# Altium footprint library B0505SW2R2.PcbLib: 1 footprints
Each footprint in its own frame and in the unit in brackets; x right, y up, seen from the top. Pads: shape width x height; smd on the part's side, far side on the other; paste and mask are expansions set on the pad; w line width, h text height; cw(c..) or ccw(c..) is an arc to the next point about the centre after c.
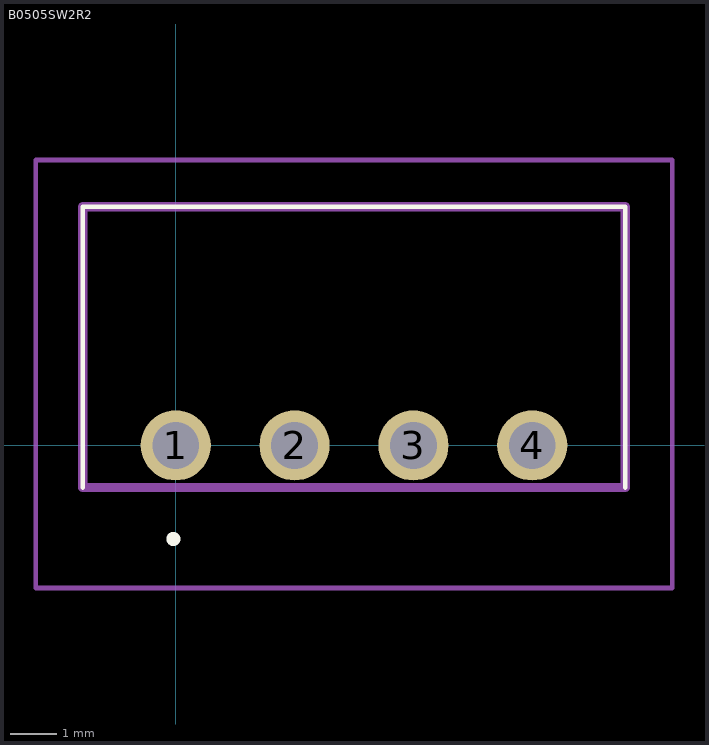
[diagram p0: the footprint, top view; thin cyan lines are the x and y axes]

## B0505SW2R2 [mm]
pads (4):
  round 1.5 hole 1: 1(0,0) 2(2.54,0) 3(5.08,0) 4(7.62,0)
Top Overlay:
  lines w0.1: -1.99,-0.9 -1.99,-0.9 ; -1.99,-0.9 -1.99,5.1 ; -1.99,-0.9 -1.99,5.1 ; -1.99,5.1 -1.99,5.1 ; -1.99,5.1 9.61,5.1 ; -1.99,5.1 9.61,5.1 ; -1.99,5.1 -1.99,5.1 ; 9.61,-0.9 9.61,5.1 ; 9.61,-0.9 9.61,-0.9 ; 9.61,-0.9 9.61,5.1 ; 9.61,5.1 9.61,5.1 ; 9.61,5.1 9.61,5.1
  lines w0.2: -0.1,-2 -0.1,-2 ; -0.1,-2 ccw(c-0.05,-2) 0,-2 ; -0.1,-2 cw(c-0.05,-2) 0,-2 ; -0.1,-2 -0.1,-2 ; -0.1,-2 ccw(c-0.05,-2) 0,-2 ; 0,-2 0,-2
Mechanical 15:
  lines w0.2: -1.99,-0.9 9.61,-0.9 9.61,5.1 -1.99,5.1 -1.99,-0.9
Mechanical 20:
  lines w0.1: -2.99,-3.05 10.61,-3.05 10.61,6.1 -2.99,6.1 -2.99,-3.05